# EAGLE library part BQ21040-LIPO-CHARGER (library CMU-ArtFab)
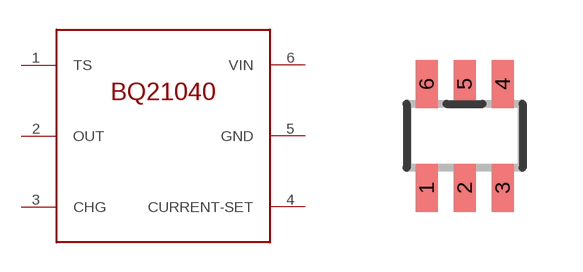
[diagram p29: symbol with the pads of SOT23-6; footprint SOT23-6]

Designator prefix IC

## BQ21040-LIPO-CHARGER  [SOT23-6]
1  TS
2  OUT
3  CHG
4  CURRENT-SET
5  GND
6  VIN

## Footprint SOT23-6 (pad centres in mm)
smd 0.55 x 1.2: 1 -0.95,-1.3; 2 0,-1.3; 3 0.95,-1.3; 4 0.95,1.3; 5 0,1.3; 6 -0.95,1.3